# Altium footprint library DANCE_LIB.PcbLib: 37 footprints (part 2 of 3)
Each footprint in its own frame and in the unit in brackets; x right, y up, seen from the top. Pads: shape width x height; smd on the part's side, far side on the other; paste and mask are expansions set on the pad; w line width, h text height; cw(c..) or ccw(c..) is an arc to the next point about the centre after c.
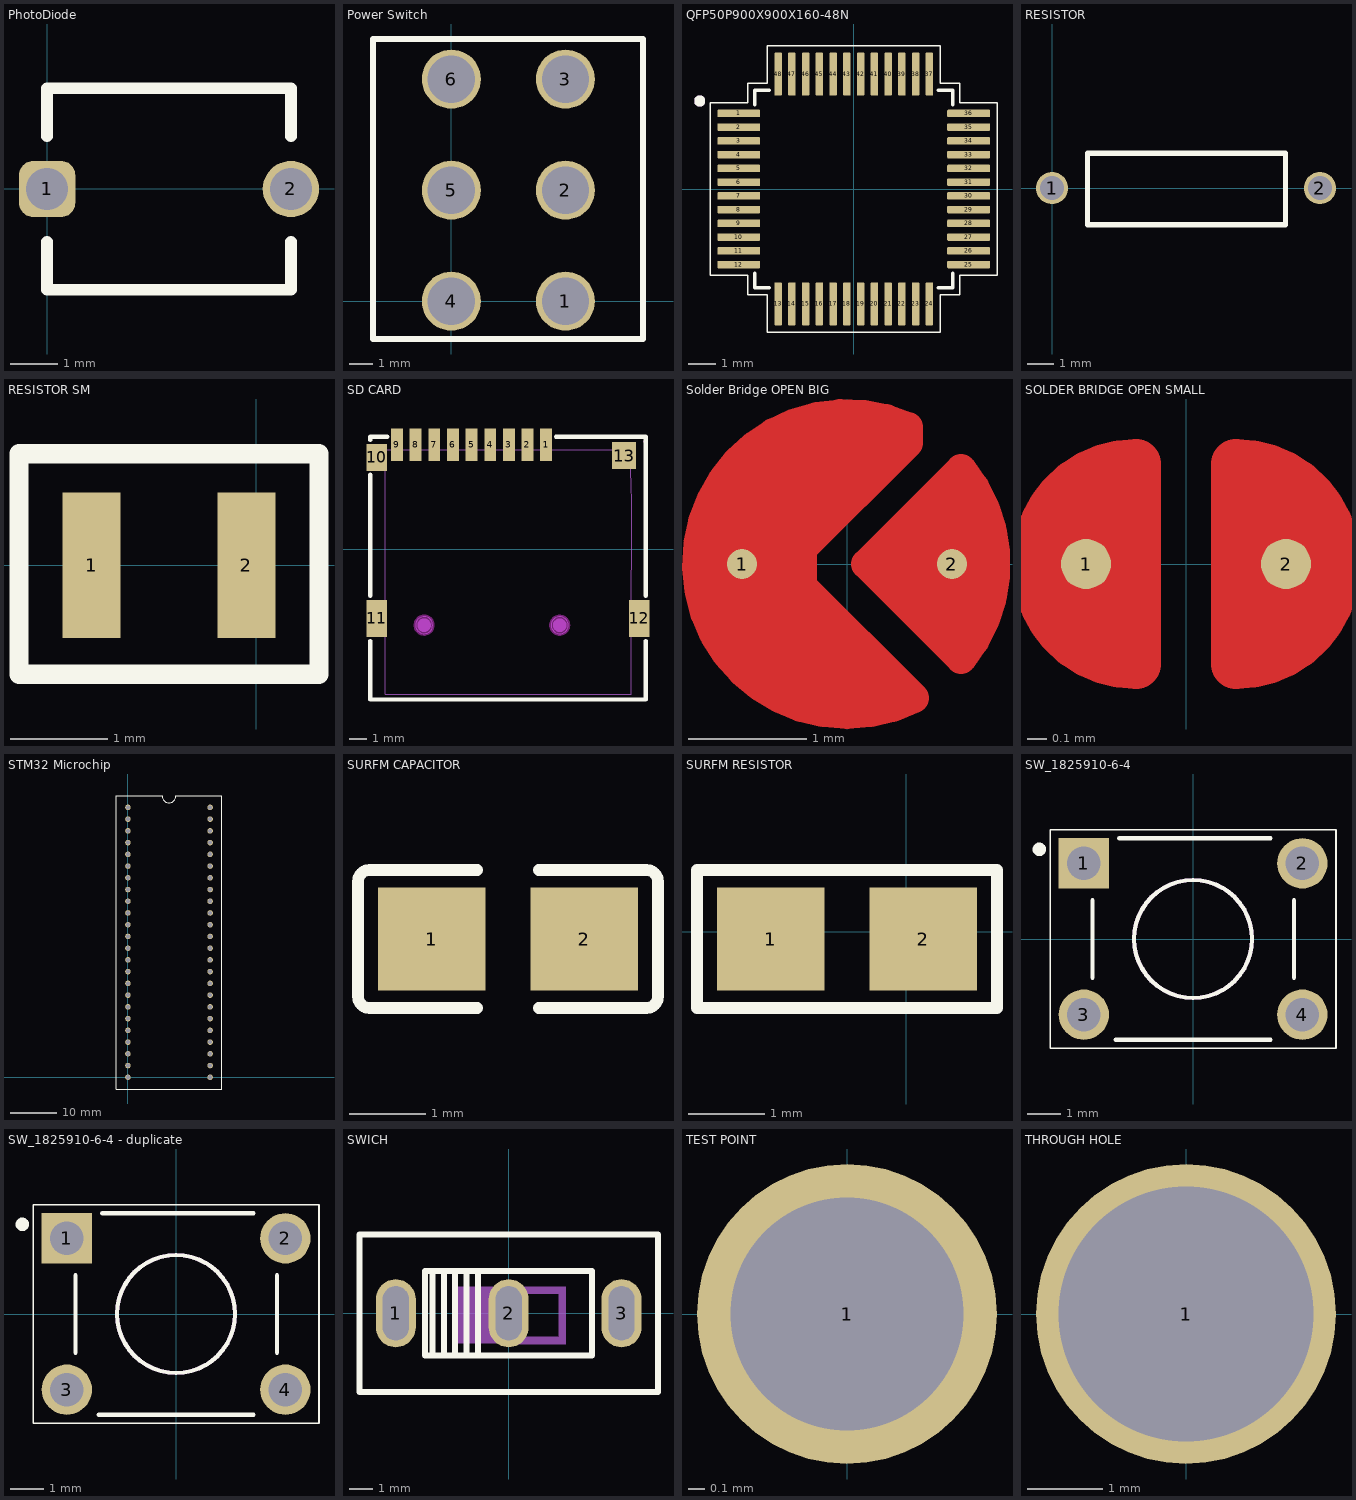
[diagram p1: the footprints below, top view; thin cyan lines are the x and y axes]

## PhotoDiode [mm]
pads (2):
  rrect50% 1.2x1.2 hole 0.9: 1(0,0)
  round 1.2 hole 0.9: 2(5.2,0)
Top Overlay:
  lines w0.254: 0,-1.125 0,-2.15 5.2,-2.15 5.2,-1.125 ; 0,1.125 0,2.15 5.2,2.15 5.2,1.125

## Power Switch [mm]
pads (6):
  round 2.5 hole 2: 1(4.83,0) 2(4.83,4.7) 3(4.83,9.4) 4(0,0) 5(0,4.7) 6(0,9.4)
Top Overlay:
  lines w0.254: -3.315,-1.6 8.115,-1.6 8.115,11.1 -3.315,11.1 -3.315,-1.6

## QFP50P900X900X160-48N [mm]
pads (48):
  rrect30% 1.56x0.28 smd: 1(-4.18,2.75) 2(-4.18,2.25) 3(-4.18,1.75) 4(-4.18,1.25) 5(-4.18,0.75) 6(-4.18,0.25) 7(-4.18,-0.25) 8(-4.18,-0.75) 9(-4.18,-1.25) 10(-4.18,-1.75) 11(-4.18,-2.25) 12(-4.18,-2.75) 25(4.18,-2.75) 26(4.18,-2.25) 27(4.18,-1.75) 28(4.18,-1.25) 29(4.18,-0.75) 30(4.18,-0.25) 31(4.18,0.25) 32(4.18,0.75) 33(4.18,1.25) 34(4.18,1.75) 35(4.18,2.25) 36(4.18,2.75)
  rrect30% 0.28x1.56 smd: 13(-2.75,-4.18) 14(-2.25,-4.18) 15(-1.75,-4.18) 16(-1.25,-4.18) 17(-0.75,-4.18) 18(-0.25,-4.18) 19(0.25,-4.18) 20(0.75,-4.18) 21(1.25,-4.18) 22(1.75,-4.18) 23(2.25,-4.18) 24(2.75,-4.18) 37(2.75,4.18) 38(2.25,4.18) 39(1.75,4.18) 40(1.25,4.18) 41(0.75,4.18) 42(0.25,4.18) 43(-0.25,4.18) 44(-0.75,4.18) 45(-1.25,4.18) 46(-1.75,4.18) 47(-2.25,4.18) 48(-2.75,4.18)
Top Overlay:
  circle w0.2: c-5.6,3.2 r0.1
  lines w0.05: -5.21,-3.14 -3.85,-3.14 -3.85,-3.85 -3.14,-3.85 -3.14,-5.21 3.14,-5.21 3.14,-3.85 3.85,-3.85 3.85,-3.14 5.21,-3.14 5.21,3.14 3.85,3.14 3.85,3.85 3.14,3.85 3.14,5.21 -3.14,5.21 -3.14,3.85 -3.85,3.85 -3.85,3.14 -5.21,3.14 -5.21,-3.14
  lines w0.127: -3.6,-3.07 -3.6,-3.6 -3.07,-3.6 ; -3.6,3.07 -3.6,3.6 -3.07,3.6 ; 3.07,-3.6 3.6,-3.6 3.6,-3.07 ; 3.07,3.6 3.6,3.6 3.6,3.07
Mechanical 13:
  circle w0.2: c-5.6,3.2 r0.1
  lines w0: -3.505,0.635 -3.505,0.864

## RESISTOR [mm]
pads (2):
  round 1.2 hole 0.9: 1(0,0) 2(10,0)
Top Overlay:
  lines w0.2: 1.325,-1.367 8.716,-1.367 8.716,1.3 1.325,1.3 1.325,-1.367

## RESISTOR SM [mm]
pads (2):
  rect 0.6x1.5 smd: 1(-1.7,0) 2(-0.1,0)
Top Overlay:
  lines w0.2: -2.45,-1.125 -2.45,1.15 0.65,1.15 0.65,-1.125 -2.45,-1.125

## SD CARD [mm]
pads (13):
  rect 0.7x1.9 smd: 1(-9.058,6.163) 2(-10.158,6.163) 3(-11.258,6.163) 4(-12.358,6.163) 5(-13.458,6.163) 6(-14.558,6.163) 7(-15.658,6.163) 8(-16.758,6.163) 9(-17.858,6.163)
  rect 1.2x1.6 smd: 10(-19.058,5.413)
  rect 1.2x2.2 smd: 11(-19.058,-4.087) 12(-3.558,-4.087)
  rect 1.4x1.6 smd: 13(-4.458,5.513)
Top Overlay:
  lines w0.254: -19.436,-5.418 -19.436,-8.868 -3.18,-8.868 -3.18,-5.418 ; -19.436,-2.756 -19.436,4.382 ; -19.436,6.444 -19.436,6.626 -18.439,6.626 ; -8.477,6.626 -3.18,6.626 -3.18,-2.756
Keep-Out Layer:
  board cut-out: -7.758,-4.489 -7.759,-4.391 -7.836,-4.209 -7.977,-4.071 -8.159,-3.996 -8.357,-3.996 -8.539,-4.071 -8.679,-4.209 -8.757,-4.391 -8.758,-4.49 -8.757,-4.588 -8.679,-4.77 -8.539,-4.908 -8.356,-4.983 -8.159,-4.983 -7.977,-4.908 -7.836,-4.77 -7.759,-4.588
  board cut-out: -15.758,-4.487 -15.759,-4.388 -15.836,-4.207 -15.977,-4.068 -16.159,-3.993 -16.357,-3.993 -16.539,-4.068 -16.679,-4.207 -16.757,-4.388 -16.758,-4.487 -16.757,-4.586 -16.679,-4.767 -16.539,-4.906 -16.356,-4.981 -16.159,-4.981 -15.977,-4.906 -15.836,-4.767 -15.759,-4.586
Keep-Out Layer:
  circle w0.254: c-8.258,-4.489 r0.5
  circle w0.025: c-8.258,-4.489 r0.5
  circle w0.254: c-16.258,-4.487 r0.5
  circle w0.025: c-16.258,-4.487 r0.5
Mechanical 1:
  circle w0.025: c-8.258,-4.489 r0.5
  circle w0.025: c-16.258,-4.487 r0.5
Mechanical 6:
  circle w0.4: c-8.258,-4.489 r0.2
  circle w0.4: c-16.258,-4.487 r0.2
Mechanical 15:
  region: -4.033,6.013 -4.033,5.013 -4.883,5.013 -4.883,6.013
  region: -19.394,5.913 -18.544,5.913 -18.544,4.913 -19.394,4.913
  region: -4.108,-3.462 -3.258,-3.462 -3.258,-4.662 -4.108,-4.662
  region: -19.394,-3.487 -18.544,-3.487 -18.544,-4.687 -19.394,-4.687
  region: -9.208,6.35 -8.908,6.35 -8.908,5.85 -9.208,5.85
  region: -10.308,6.35 -10.008,6.35 -10.008,5.85 -10.308,5.85
  region: -11.408,6.35 -11.108,6.35 -11.108,5.85 -11.408,5.85
  region: -12.508,6.35 -12.208,6.35 -12.208,5.85 -12.508,5.85
  region: -13.608,6.35 -13.308,6.35 -13.308,5.85 -13.608,5.85
  region: -14.708,6.35 -14.408,6.35 -14.408,5.85 -14.708,5.85
  region: -15.808,6.35 -15.508,6.35 -15.508,5.85 -15.808,5.85
  region: -16.908,6.35 -16.608,6.35 -16.608,5.85 -16.908,5.85
  region: -18.008,6.35 -17.708,6.35 -17.708,5.85 -18.008,5.85
  region: -3.198,6.349 -3.198,6.374 -3.233,6.409 -3.283,6.409 -3.318,6.374 -3.318,6.349 -3.318,6.325 -3.283,6.289 -3.233,6.289 -3.198,6.325
  lines w0.051: -18.547,-8.561 -4.047,-8.561 -4.034,-1.234 -4.041,2.366 -4.057,4.178 -4.047,5.864 -7.539,5.864 -11.208,5.864 -18.547,5.864 -18.547,-8.561

## Solder Bridge OPEN BIG [mil]
pads (2):
  round 10 smd mask+0: 1(-35,0) 2(35,0)
Top Layer:
  region: 6.34,0 38.02,31.69 45,24.71 45,-5.35 48.74,-9.09 44.42,-13.41 44.42,-24.09 38.47,-30.04
  region: 20.31,45.69 -19.31,45.69 -49.92,15.08 -49.92,-19.06 -22.04,-46.94 16.85,-46.94 17.2,-47.3 19.51,-44.99 23.24,-44.99 23.24,-43.39 -18.84,-1.31 -18.84,0.29 -6.95,12.19
  lines w10: 38.02,-31.69 6.34,0 38.02,31.69 ; 38.03,-31.69 ccw(c0,0) 38.03,31.69 ; -15,-7.36 22.36,-44.72 cw(c0,0) 20.31,45.69 20.31,40.31 -15,5 -15,-7.36
Top Solder:
  circle w62: c0,0 r25

## SOLDER BRIDGE OPEN SMALL [mil]
pads (2):
  round 10 smd mask+0: 1(-20,0) 2(20,0)
Top Layer:
  region: 10,20 10,-20 20,-20 30,-10 30,10 25,15
  region: -10,20 -10,-20 -15,-20 -30,-5 -30,10 -25,15
  lines w10: -10,-20 cw(c-10,0) -10,20 -10,-20 ; 10,-20 ccw(c10,0) 10,20 10,-20
Top Solder:
  circle w12: c-10,0 r20
  circle w12: c10,0 r20
  region: -10,20 -20,10 -25,10 -25,-15 -20,-20 10,-20 15,-15 25,-15 25,-5 30,0 30,10 20,20 10,20
  lines w10: 0,-20 0,20
  lines w14: -10,-20 10,-20 ; -10,20 10,20

## STM32 Microchip [mm]
pads (48):
  round 1.2 hole 0.9: 1(0,58.42) 2(0,55.88) 3(0,53.34) 4(0,50.8) 5(0,48.26) 6(0,45.72) 7(0,43.18) 8(0,40.64) 9(0,38.1) 10(0,35.56) 11(0,33.02) 12(0,30.48) 13(0,27.94) 14(0,25.4) 15(0,22.86) 16(0,20.32) 17(0,17.78) 18(0,15.24) 19(0,12.7) 20(0,10.16) 21(0,7.62) 22(0,5.08) 23(0,2.54) 24(0,0) 25(17.78,0) 26(17.78,2.54) 27(17.78,5.08) 28(17.78,7.62) 29(17.78,10.16) 30(17.78,12.7) 31(17.78,15.24) 32(17.78,17.78) 33(17.78,20.32) 34(17.78,22.86) 35(17.78,25.4) 36(17.78,27.94) 37(17.78,30.48) 38(17.78,33.02) 39(17.78,35.56) 40(17.78,38.1) 41(17.78,40.64) 42(17.78,43.18) 43(17.78,45.72) 44(17.78,48.26) 45(17.78,50.8) 46(17.78,53.34) 47(17.78,55.88) 48(17.78,58.42)
Top Overlay:
  lines w0.254: -2.54,-2.54 20.3,-2.54 20.3,60.9 10.38,60.9 cw(c8.88,60.9) 7.38,60.9 -2.54,60.9 -2.54,-2.54

## SURFM CAPACITOR [mm]
pads (2):
  rect 1.41x1.35 smd paste-100 mask+0.051: 1(970.227,1268.578) 2(972.227,1268.578)
Top Overlay:
  lines w0.152: 970.826,1267.674 969.416,1267.674 cw(c969.416,1267.826) 969.263,1267.826 969.263,1269.329 cw(c969.416,1269.329) 969.416,1269.481 970.826,1269.481 ; 971.628,1267.674 973.038,1267.674 ccw(c973.038,1267.826) 973.191,1267.826 973.191,1269.329 ccw(c973.038,1269.329) 973.038,1269.481 971.628,1269.481

## SURFM RESISTOR [mm]
pads (2):
  rect 1.41x1.35 smd paste-100 mask+0.051: 1(-1.773,-0.097) 2(0.227,-0.097)
Top Overlay:
  lines w0.152: -0.372,-1.001 1.191,-1.001 1.191,0.807 -0.372,0.807 ; 0.416,-1.001 -2.737,-1.001 -2.737,0.807 0.416,0.807

## SW_1825910-6-4 [mm]
pads (4):
  rect 1.498x1.498 hole 0.99: 1(-3.25,2.25)
  round 1.498 hole 0.99: 2(3.25,2.25) 3(-3.25,-2.25) 4(3.25,-2.25)
Top Overlay:
  circle w0.127: c0,0 r1.755
  circle w0.2: c-4.572,2.667 r0.1
  lines w0.05: -4.25,-3.25 -4.25,3.25 4.25,3.25 4.25,-3.25 -4.25,-3.25
  lines w0.127: -2.995,-1.15 -2.995,1.15 ; -2.3,-2.995 2.3,-2.995 ; -2.2,2.995 2.3,2.995 ; 3,-1.15 3,1.15
Mechanical 13:
  circle w0.127: c0,0 r1.755

## SW_1825910-6-4 - duplicate [mm]
pads (4):
  rect 1.498x1.498 hole 0.99: 1(-3.25,2.25)
  round 1.498 hole 0.99: 2(3.25,2.25) 3(-3.25,-2.25) 4(3.25,-2.25)
Top Overlay:
  circle w0.127: c0,0 r1.755
  circle w0.2: c-4.572,2.667 r0.1
  lines w0.05: -4.25,-3.25 -4.25,3.25 4.25,3.25 4.25,-3.25 -4.25,-3.25
  lines w0.127: -2.995,-1.15 -2.995,1.15 ; -2.3,-2.995 2.3,-2.995 ; -2.2,2.995 2.3,2.995 ; 3,-1.15 3,1.15
Mechanical 13:
  circle w0.127: c0,0 r1.755

## SWICH [mm]
pads (3):
  oval 1.7x2.9 hole 1.1 slot 2.3 at 90 deg paste-2539.97 mask+0.05: 1(-4.8,0) 2(0,0) 3(4.8,0)
Top Overlay:
  lines w0.254: -3.242,-1.8 -3.233,-1.8 -3.233,1.8 ; -2.762,-1.8 -2.753,-1.8 -2.753,1.8 ; -2.283,-1.8 -2.273,-1.8 -2.273,1.8 ; -1.803,-1.8 -1.793,-1.8 -1.793,1.8 ; -1.314,1.8 -1.314,-1.8 -1.257,-1.8 ; 2.317,1.8 2.74,1.8 ; 2.45,1.8 -3.55,1.8 -3.55,-1.8 3.55,-1.8 3.55,1.3 3.55,1.8 2.55,1.8 ; -6.35,-3.35 -6.35,3.35 6.35,3.35 6.35,-3.35 -6.35,-3.35
Mechanical 6:
  region: -2.4,1.13 0,1.13 0,-1.27 -2.4,-1.27
  region: -0.013,1.129 2.387,1.129 2.425,1.129 2.425,0.826 -0.015,0.826 -0.015,0.926
  region: 2.124,-1.311 2.124,1.089 2.124,1.127 2.428,1.127 2.428,-1.313 2.327,-1.313
  region: -0.021,-1.007 2.379,-1.007 2.417,-1.007 2.417,-1.311 -0.023,-1.311 -0.023,-1.21
  region: -0.019,-1.301 -0.019,1.099 -0.019,1.137 0.284,1.137 0.284,-1.303 0.184,-1.303
Mechanical 15:
  region: -6.35,-3.29 -6.374,-3.291 -6.408,-3.326 -6.408,-3.374 -6.374,-3.409 -6.35,-3.41 -6.326,-3.409 -6.292,-3.374 -6.292,-3.326 -6.326,-3.291 -6.35,-3.29
  region: -5.2,0.65 -4.4,0.65 -4.4,-0.65 -5.2,-0.65
  region: -0.4,0.65 0.4,0.65 0.4,-0.65 -0.4,-0.65
  region: 4.4,0.65 5.2,0.65 5.2,-0.65 4.4,-0.65
  lines w0.051: -6.35,-3.35 -6.35,3.35 6.35,3.35 6.35,-3.35 -6.35,-3.35

## TEST POINT [mm]
pads (1):
  round 1.8 hole 1.4: 1(0,0)

## THROUGH HOLE [mm]
pads (1):
  round 4 hole 3.4: 1(0,0)